# Altium footprint library PCB - IND - WE-CNSW_1812.PCBLIB: 1 footprints
Each footprint in its own frame and in the unit in brackets; x right, y up, seen from the top. Pads: shape width x height; smd on the part's side, far side on the other; paste and mask are expansions set on the pad; w line width, h text height; cw(c..) or ccw(c..) is an arc to the next point about the centre after c.
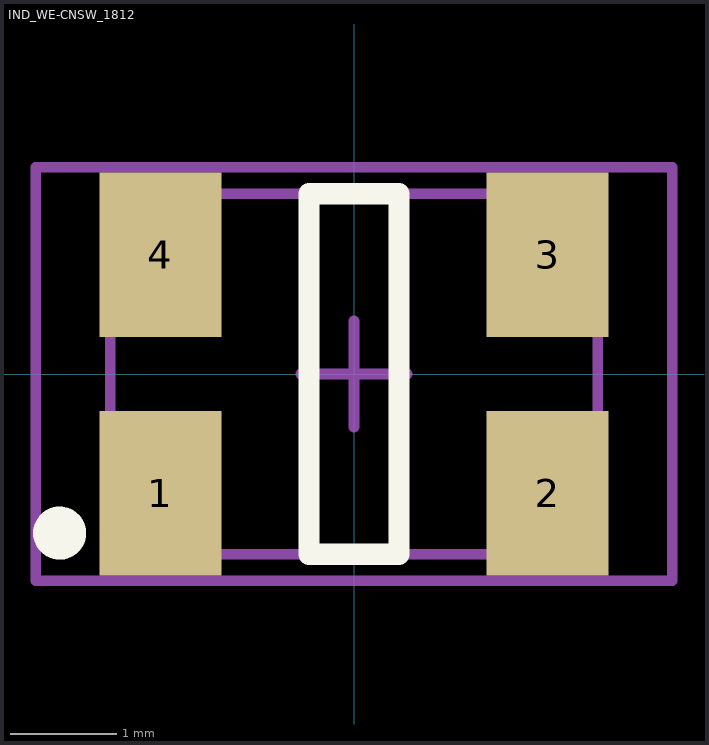
[diagram p0: the footprint, top view; thin cyan lines are the x and y axes]

## IND_WE-CNSW_1812 [mm] "SMD Line Filter, 4-Leads, Body 4.5x3.2mm"
height 3
pads (4):
  rect 1.15x1.55 smd: 1(-1.825,-1.125) 2(1.825,-1.125) 3(1.825,1.125) 4(-1.825,1.125)
Top Overlay:
  circle w0.25: c-2.775,-1.5 r0.125
  lines w0.2: -0.425,-1.7 0.425,-1.7 0.425,1.7 -0.425,1.7 -0.425,-1.7
M5 Assembly Top:
  lines w0.1: -2.3,-1.7 2.3,-1.7 2.3,1.7 -2.3,1.7 -2.3,-1.7
  lines w0.381: -1.703,-1.243 cw(c-1.829,-1.235) -1.703,-1.222
  text ".Designator" at -1.097,-0.254 h0.76
Mechanical 15:
  lines w0.1: -0.5,0 0.5,0 ; 0,-0.5 0,0.5 ; -3,-1.95 3,-1.95 3,1.95 -3,1.95 -3,-1.95
3D body "WE-CNSW_1812_CNSW.stp": height 2.8, standoff -0.05, extent -2.25,-1.6 2.25,1.6